# EAGLE library part 74HC245-S (library chuong)
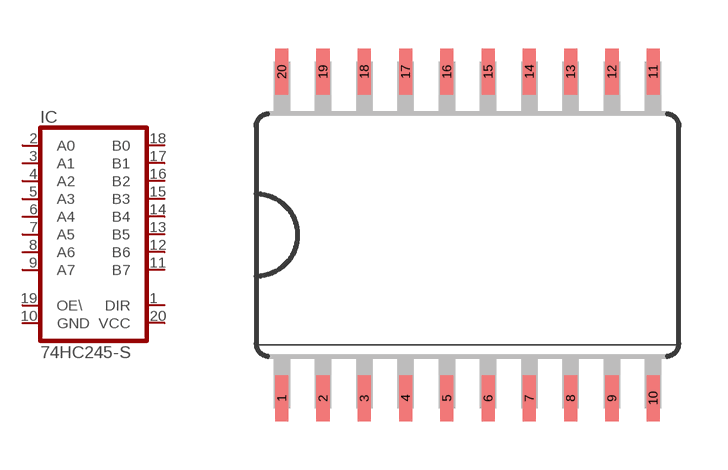
[diagram p84: symbol with the pads of SO20W; footprint SO20W]

Designator prefix IC

## 74HC245-S  [SO20W]
1  DIR  in
2  A0  in
3  A1  in
4  A2  in
5  A3  in
6  A4  in
7  A5  in
8  A6  in
9  A7  in
10  GND  in
11  B7  in
12  B6  in
13  B5  in
14  B4  in
15  B3  in
16  B2  in
17  B1  in
18  B0  in
19  OE\  in
20  VCC  in

## Footprint SO20W (pad centres in mm)
smd 0.406 x 1.422: 1 -5.715,-5.029; 2 -4.445,-5.029; 3 -3.175,-5.029; 4 -1.905,-5.029; 5 -0.635,-5.029; 6 0.635,-5.029; 7 1.905,-5.029; 8 3.175,-5.029; 9 4.445,-5.029; 10 5.715,-5.029; 11 5.715,5.029; 12 4.445,5.029; 13 3.175,5.029; 14 1.905,5.029; 15 0.635,5.029; 16 -0.635,5.029; 17 -1.905,5.029; 18 -3.175,5.029; 19 -4.445,5.029; 20 -5.715,5.029